# EAGLE library part LT3081EDFPBF (library LT3081_EDF_PBF_DFN-12)
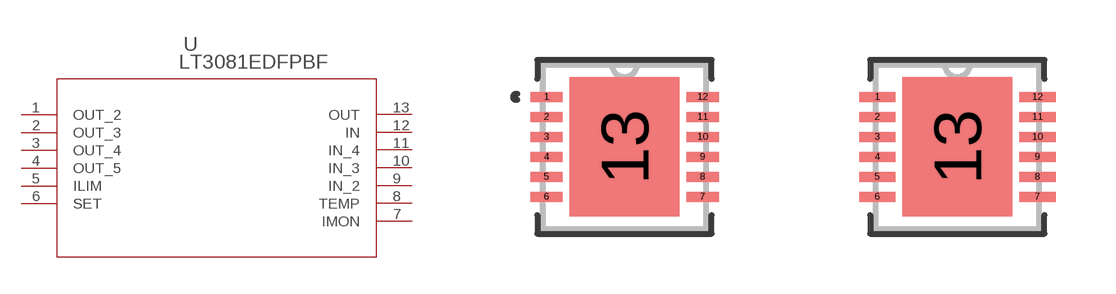
[diagram p0: symbol with the pads of DFN-12_DF_LIT; footprints DFN-12_DF_LIT, DFN-12_DF_LIT-M]

Designator prefix U

## LT3081EDFPBFDFN-12_DF_LIT (Copyright: Copyright (C) 2024 Ultra Librarian. All rights reserved.; Manufacturer_Part_Number: LT3081EDF#PBF; Mfr_Name: Analog Devices Inc)  [DFN-12_DF_LIT]
1  OUT_2  out
2  OUT_3  out
3  OUT_4  out
4  OUT_5  out
5  ILIM  pas
6  SET  pas
7  IMON  pas
8  TEMP  pas
9  IN_2  in
10  IN_3  in
11  IN_4  in
12  IN  in
13  OUT  out

## LT3081EDFPBFDFN-12_DF_LIT-M (Copyright: Copyright (C) 2024 Ultra Librarian. All rights reserved.; Manufacturer_Part_Number: LT3081EDF#PBF; Mfr_Name: Analog Devices Inc)  [DFN-12_DF_LIT-M]
Pads as for DFN-12_DF_LIT

## LT3081EDFPBFDFN-12_DF_LIT-L (Copyright: Copyright (C) 2024 Ultra Librarian. All rights reserved.; Manufacturer_Part_Number: LT3081EDF#PBF; Mfr_Name: Analog Devices Inc)  [DFN-12_DF_LIT-L]
Pads as for DFN-12_DF_LIT

## Footprint DFN-12_DF_LIT (pad centres in mm)
smd 0.805 x 0.249: 1 -1.952,1.25; 2 -1.952,0.75; 3 -1.952,0.25; 4 -1.952,-0.25; 5 -1.952,-0.75; 6 -1.952,-1.25; 7 1.952,-1.25; 8 1.952,-0.75; 9 1.952,-0.25; 10 1.952,0.25; 11 1.952,0.75; 12 1.952,1.25
smd 2.75 x 3.48: 13 0,0

## Footprint DFN-12_DF_LIT-M (pad centres in mm)
smd 0.906 x 0.249: 1 -2.003,1.25; 2 -2.003,0.75; 3 -2.003,0.25; 4 -2.003,-0.25; 5 -2.003,-0.75; 6 -2.003,-1.25; 7 2.003,-1.25; 8 2.003,-0.75; 9 2.003,-0.25; 10 2.003,0.25; 11 2.003,0.75; 12 2.003,1.25
smd 2.75 x 3.48: 13 0,0

## Footprint DFN-12_DF_LIT-L (pad centres in mm)
smd 0.703 x 0.249: 1 -1.902,1.25; 2 -1.902,0.75; 3 -1.902,0.25; 4 -1.902,-0.25; 5 -1.902,-0.75; 6 -1.902,-1.25; 7 1.902,-1.25; 8 1.902,-0.75; 9 1.902,-0.25; 10 1.902,0.25; 11 1.902,0.75; 12 1.902,1.25
smd 2.75 x 3.48: 13 0,0